# Altium footprint library MIC29302WU.PcbLib: 1 footprints
Each footprint in its own frame and in the unit in brackets; x right, y up, seen from the top. Pads: shape width x height; smd on the part's side, far side on the other; paste and mask are expansions set on the pad; w line width, h text height; cw(c..) or ccw(c..) is an arc to the next point about the centre after c.
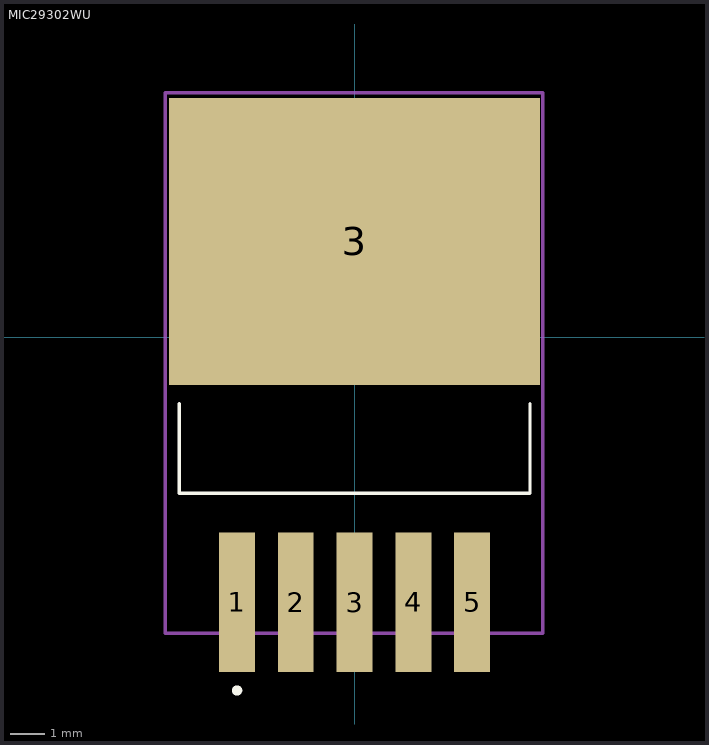
[diagram p0: the footprint, top view; thin cyan lines are the x and y axes]

## MIC29302WU [mm]
pads (6):
  rect 1.041x4.039 smd: 1(-3.404,-7.671) 2(-1.702,-7.671) 3(0,-7.671) 4(1.702,-7.671) 5(3.404,-7.671)
  rect 10.744x8.306 smd: 3(0,2.781)
Top Overlay:
  lines w0.1: -5.08,-4.508 -5.08,-1.921 -5.08,-4.508 ; -5.08,-4.508 5.08,-4.508 ; -5.08,-4.508 5.08,-4.508 ; 5.08,-4.508 5.08,-1.921 5.08,-4.508
  lines w0.2: -3.4,-10.271 cw(c-3.4,-10.221) -3.4,-10.171 ; -3.4,-10.271 ccw(c-3.4,-10.221) -3.4,-10.171 ; -3.4,-10.271 cw(c-3.4,-10.221) -3.4,-10.171
Mechanical 15:
  lines w0.1: -5.48,-8.57 5.45,-8.57 5.45,7.08 -5.48,7.08 -5.48,-8.57
3D body "MIC29302WU.step": height 4.4, standoff -0.15, extent -5.13,-8.378 5.17,6.85